# EAGLE library part DISPLAY-MAX7219 (library tidyeagle)
Maxim Serial LED Display Driver Datasheet: Full <http://datasheets.maxim-ic.com/en/ds/MAX7219-MAX7221.pdf> Application Notes: 7-Segment LED Displays used with this IC should be of the common cathode configuration. LED brightness is controlled by a resistor between ISET and VCC. A minimum value should be 9.53kΩ, which will typically allow a supply of 40mA. See Page 10/11 of the datasheet for more information on selecting a suitable resistor. A 10µF electrolytic bypass capacitor should used in addition to the standard 0.1µF ceramic capacitor to mitigate the effects of power supply ripple. Supports the following chips - MAX7219 MAX7221
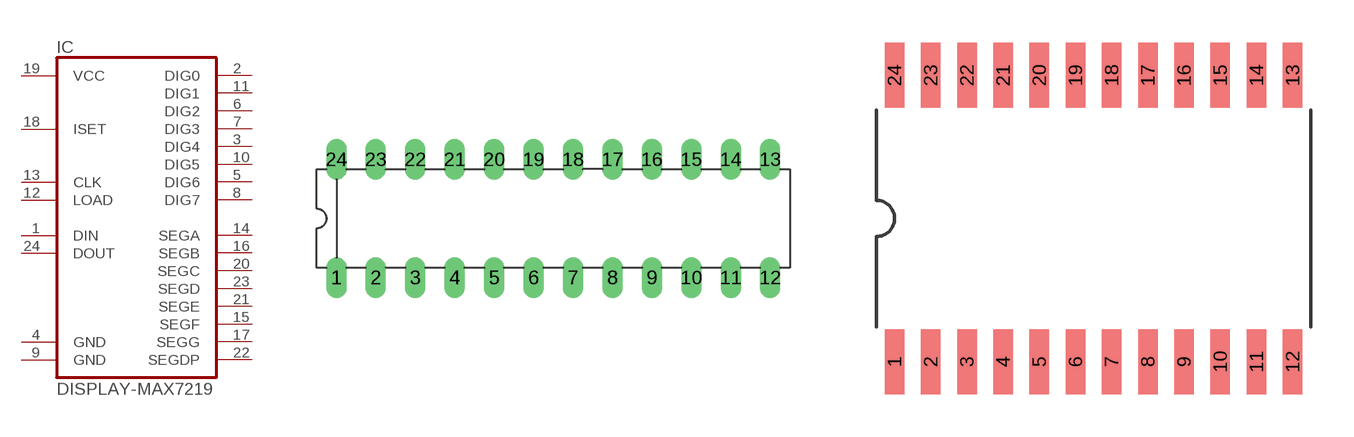
[diagram p2: symbol with the pads of DIL24-3; footprints DIL24-3, SO24L]

Designator prefix IC

## DISPLAY-MAX7219-DIP24  [DIL24-3]
1  DIN  in
2  DIG0  out
3  DIG4  out
4  GND  pwr
5  DIG6  out
6  DIG2  out
7  DIG3  out
8  DIG7  out
9  GND  pwr
10  DIG5  out
11  DIG1  out
12  LOAD  in
13  CLK  in
14  SEGA  out
15  SEGF  out
16  SEGB  out
17  SEGG  out
18  ISET  in
19  VCC  pwr
20  SEGC  out
21  SEGE  out
22  SEGDP  out
23  SEGD  out
24  DOUT  out

## DISPLAY-MAX7219-SO24  [SO24L]
Pads as for DIL24-3

## Footprint DIL24-3 (pad centres in mm)
Dual In Line Package 0.3 inch
drill 0.813 long: 1 -13.97,-3.81; 2 -11.43,-3.81; 3 -8.89,-3.81; 4 -6.35,-3.81; 5 -3.81,-3.81; 6 -1.27,-3.81; 7 1.27,-3.81; 8 3.81,-3.81; 9 6.35,-3.81; 10 8.89,-3.81; 11 11.43,-3.81; 12 13.97,-3.81; 13 13.97,3.81; 14 11.43,3.81; 15 8.89,3.81; 16 6.35,3.81; 17 3.81,3.81; 18 1.27,3.81; 19 -1.27,3.81; 20 -3.81,3.81; 21 -6.35,3.81; 22 -8.89,3.81; 23 -11.43,3.81; 24 -13.97,3.81

## Footprint SO24L (pad centres in mm)
Not Tested.
smd 0.686 x 2.286: 1 -6.985,-5.029; 2 -5.715,-5.029; 3 -4.445,-5.029; 4 -3.175,-5.029; 5 -1.905,-5.029; 6 -0.635,-5.029; 7 0.635,-5.029; 8 1.905,-5.029; 9 3.175,-5.029; 10 4.445,-5.029; 11 5.715,-5.029; 12 6.985,-5.029; 13 6.985,5.029; 14 5.715,5.029; 15 4.445,5.029; 16 3.175,5.029; 17 1.905,5.029; 18 0.635,5.029; 19 -0.635,5.029; 20 -1.905,5.029; 21 -3.175,5.029; 22 -4.445,5.029; 23 -5.715,5.029; 24 -6.985,5.029